# Altium footprint library RGB LED.PcbLib: 19 footprints (part 2 of 2)
Each footprint in its own frame and in the unit in brackets; x right, y up, seen from the top. Pads: shape width x height; smd on the part's side, far side on the other; paste and mask are expansions set on the pad; w line width, h text height; cw(c..) or ccw(c..) is an arc to the next point about the centre after c.
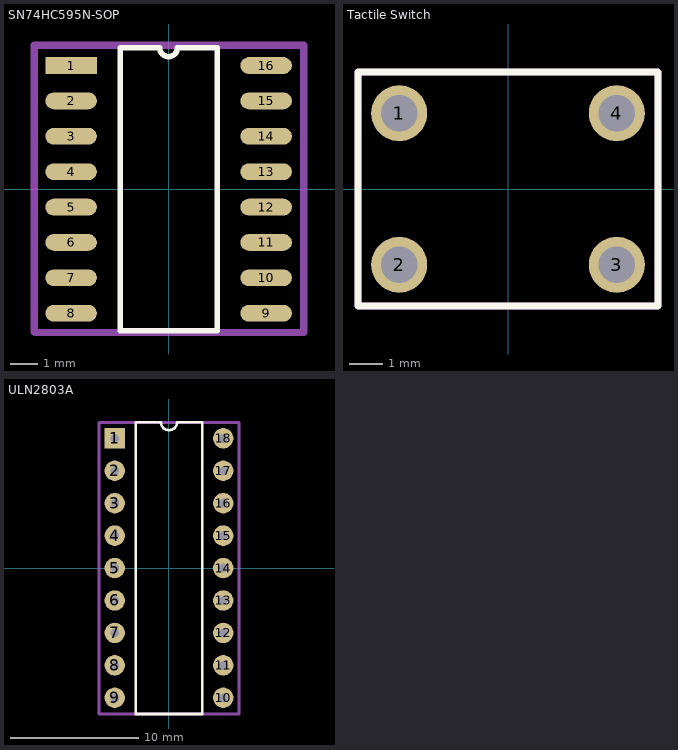
[diagram p1: the footprints below, top view; thin cyan lines are the x and y axes]

## SN74HC595N-SOP [mm]
pads (16):
  rect 1.85x0.6 smd: 1(-3.5,4.445)
  oval 1.85x0.6 smd: 2(-3.5,3.175) 3(-3.5,1.905) 4(-3.5,0.635) 5(-3.5,-0.635) 6(-3.5,-1.905) 7(-3.5,-3.175) 8(-3.5,-4.445) 9(3.5,-4.445) 10(3.5,-3.175) 11(3.5,-1.905) 12(3.5,-0.635) 13(3.5,0.635) 14(3.5,1.905) 15(3.5,3.175) 16(3.5,4.445)
Top Overlay:
  lines w0.2: -1.74,-5.08 1.74,-5.08 1.74,5.08 0.318,5.08 cw(c0,5.08) -0.318,5.08 -1.74,5.08 -1.74,-5.08
Mechanical 29:
  lines w0.254: -4.823,-5.117 -4.802,-5.138 4.852,-5.138 4.852,5.172 -4.823,5.172 -4.823,-5.117
  text ".Designator" at -4.902,5.629 h0.7
3D body "SN74HC595N sop.stp": height 1.86, standoff -0.14, extent -3.9,-5.1 3.9,5.1

## Tactile Switch [mm]
pads (4):
  round 1.7 hole 1.1: 1(-3.3,2.3) 2(-3.3,-2.3) 3(3.3,-2.3) 4(3.3,2.3)
Top Overlay:
  lines w0.2: -4.55,-3.55 -4.55,3.55 4.544,3.55 4.55,3.544 4.55,-3.55 -4.55,-3.55
Mechanical 29:
  lines w0.2: 4.543,3.55 4.549,3.544 ; 4.544,3.55 -4.55,3.55 -4.55,-3.55 4.55,-3.55 4.55,3.544
  text ".Designator" at -4.668,4.045 h0.7
  text "1" at -2.075,1.943 h0.7
3D body "tactile switch.step": height 4.31, standoff -3.49, extent -3.85,-3 3.85,3

## ULN2803A [mm]
pads (18):
  rect 1.6x1.6 hole 0.7: 1(-4.25,10.16)
  round 1.6 hole 0.7: 2(-4.25,7.62) 3(-4.25,5.08) 4(-4.25,2.54) 5(-4.25,0) 6(-4.25,-2.54) 7(-4.25,-5.08) 8(-4.25,-7.62) 9(-4.25,-10.16) 10(4.25,-10.16) 11(4.25,-7.62) 12(4.25,-5.08) 13(4.25,-2.54) 14(4.25,0) 15(4.25,2.54) 16(4.25,5.08) 17(4.25,7.62) 18(4.25,10.16)
Top Overlay:
  lines w0.2: -2.615,-11.43 2.615,-11.43 2.615,11.43 0.635,11.43 cw(c0,11.43) -0.635,11.43 -2.615,11.43 -2.615,-11.43
Mechanical 29:
  lines w0.254: -5.477,-11.43 -5.477,11.408 5.477,11.408 5.477,-11.43 -5.477,-11.43
  text ".Designator" at -5.626,12.253 h0.7
3D body "ULN2803A.step": height 4.61, standoff -3.16, extent -4.027,-12.355 4.101,12.435